# Altium footprint library GPIO_Headers.PcbLib: 4 footprints
Each footprint in its own frame and in the unit in brackets; x right, y up, seen from the top. Pads: shape width x height; smd on the part's side, far side on the other; paste and mask are expansions set on the pad; w line width, h text height; cw(c..) or ccw(c..) is an arc to the next point about the centre after c.
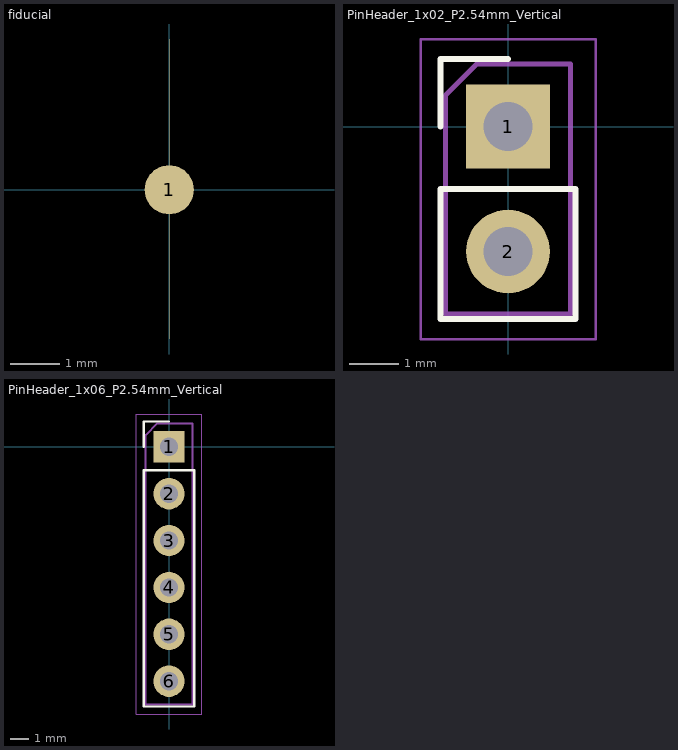
[diagram p0: the footprints below, top view; thin cyan lines are the x and y axes]

## fiducial [mm]
pads (2):
  round 1 smd mask+0.5: 1(0,0)
  oval 0x6.096 smd: 15(-0.005,0.016)

## PCBComponent_1 [mil]

## PinHeader_1x02_P2.54mm_Vertical [mil] "PinHeader_1x02_P2.54mm_Vertical"
pads (2):
  rect 67x67 hole 39: 1(0,0)
  round 67 hole 39: 2(0,-100)
Top Overlay:
  lines w5: -54,0 -54,54 0,54 ; -54,-154 -54,-50 54,-50 54,-154 -54,-154
Mechanical 1:
  lines w2: -70,-170 70,-170 70,70 -70,70 -70,-170
Mechanical 13:
  lines w4: -50,-150 -50,25 -25,50 50,50 50,-150 -50,-150
3D body "PinHeader_1x02_P2.54mm_Vertical.step": height 336.22, standoff -118.11, extent -50,-150 50,50

## PinHeader_1x06_P2.54mm_Vertical [mil] "PinHeader_1x06_P2.54mm_Vertical"
pads (6):
  rect 67x67 hole 39: 1(0,0)
  round 67 hole 39: 2(0,-100) 3(0,-200) 4(0,-300) 5(0,-400) 6(0,-500)
Top Overlay:
  lines w5: -54,0 -54,54 0,54 ; -54,-554 -54,-50 54,-50 54,-554 -54,-554
Mechanical 1:
  lines w2: -70,-570 70,-570 70,70 -70,70 -70,-570
Mechanical 13:
  lines w4: -50,-550 -50,25 -25,50 50,50 50,-550 -50,-550
3D body "PinHeader_1x06_P2.54mm_Vertical.step": height 336.22, standoff -118.11, extent -50,-550 50,50